# Altium footprint library Antenna.PcbLib: 49 footprints (part 3 of 4)
Each footprint in its own frame and in the unit in brackets; x right, y up, seen from the top. Pads: shape width x height; smd on the part's side, far side on the other; paste and mask are expansions set on the pad; w line width, h text height; cw(c..) or ccw(c..) is an arc to the next point about the centre after c.
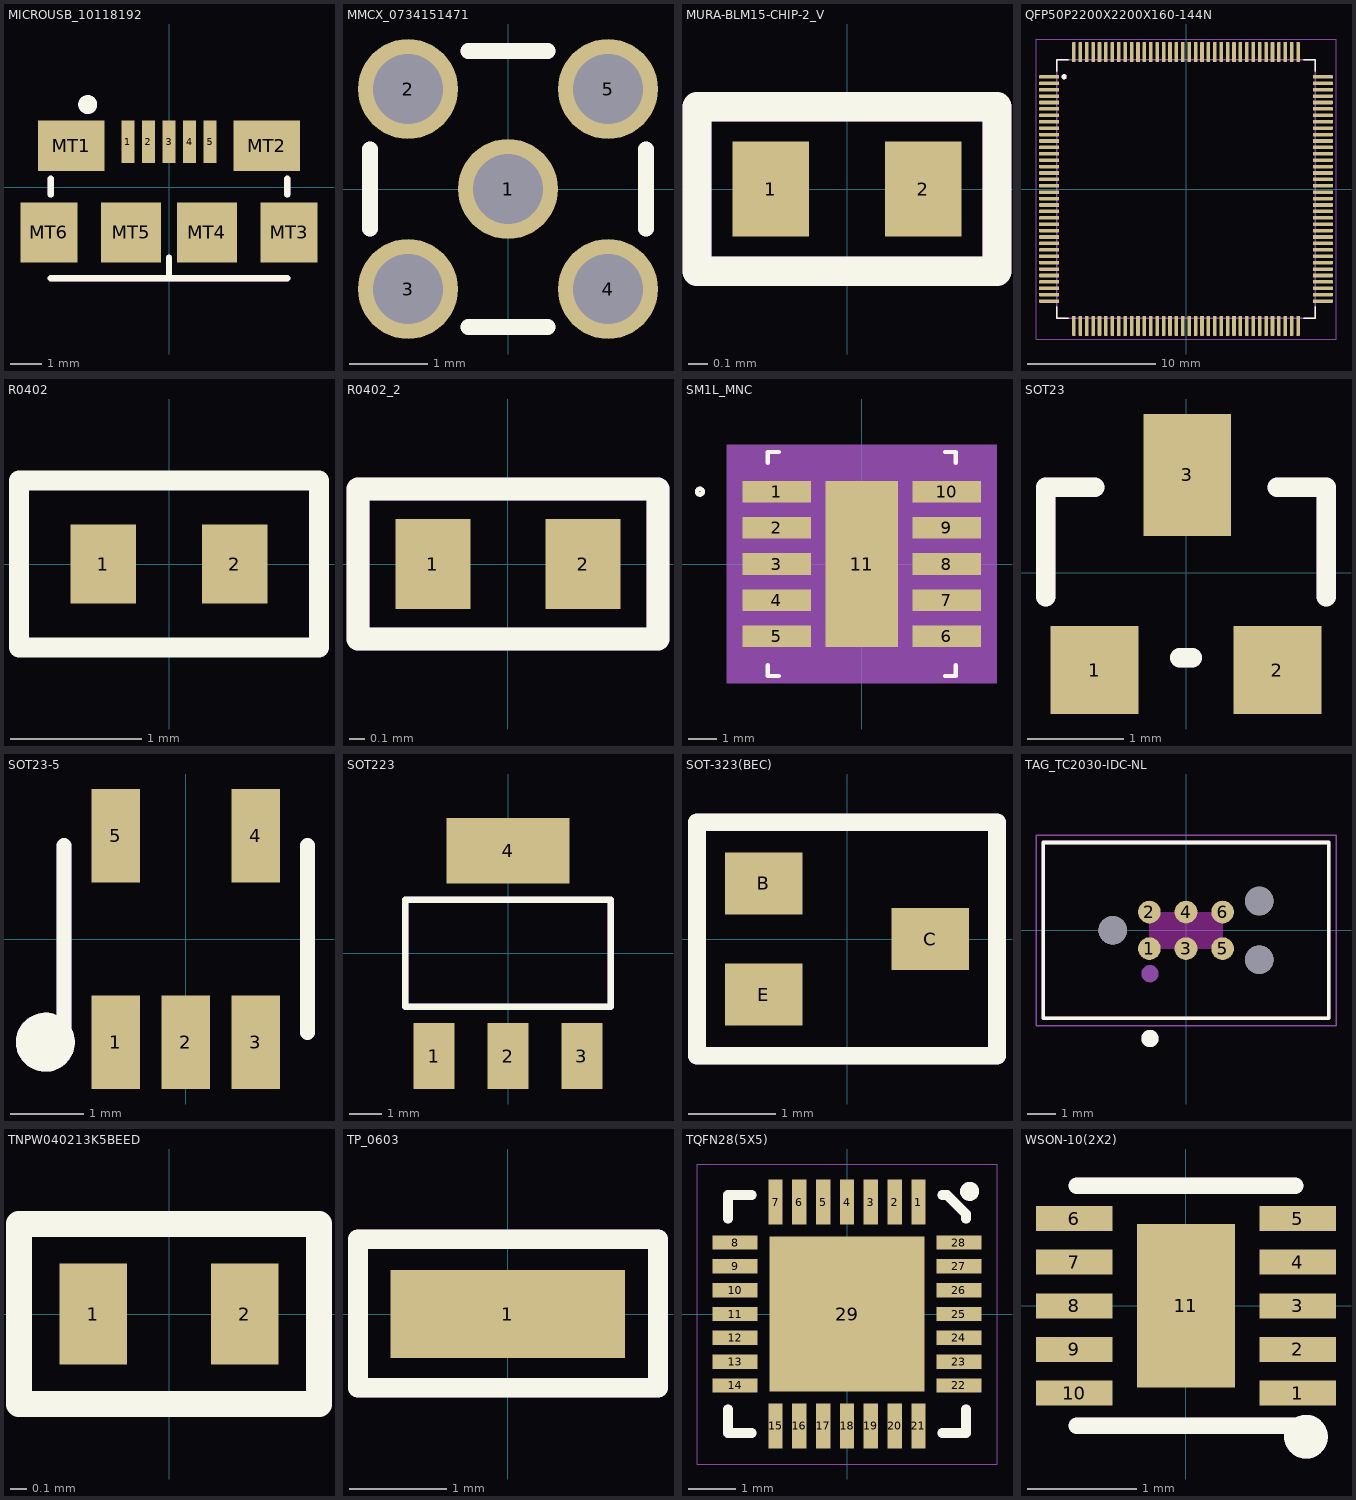
[diagram p2: the footprints below, top view; thin cyan lines are the x and y axes]

## MICROUSB_10118192 [mm]
pads (11):
  rect 0.4x1.35 smd: 1(-1.3,1.438) 2(-0.65,1.438) 3(0,1.438) 4(0.65,1.438) 5(1.3,1.438)
  rect 2.1x1.6 smd: MT1(-3.1,1.313) MT2(3.1,1.313)
  rect 1.8x1.9 smd: MT3(3.8,-1.437) MT6(-3.8,-1.437)
  rect 1.9x1.9 smd: MT4(1.2,-1.437) MT5(-1.2,-1.437)
Top Overlay:
  circle w0.3: c-2.575,2.613 r0.15
  lines w0.203: -3.75,-2.887 0,-2.887 ; -3.75,-0.237 -3.75,0.263 ; 0,-2.237 0,-2.887 ; 3.75,-2.887 0,-2.887 ; 3.75,-0.237 3.75,0.263
Mechanical 3:
  circle w0.3: c-2.575,2.613 r0.15
  lines w0.203: -3.75,-2.887 0,-2.887 ; -3.75,-0.237 -3.75,0.263 ; 0,-2.237 0,-2.887 ; 3.75,-2.887 0,-2.887 ; 3.75,-0.237 3.75,0.263
  text "'.Designator'" at 0.198,-2.773 h0.5
Top Designator:
  text ".Designator" at -7.618,-0.568 h1.52
3D body "609-4613-1-ND.STEP": height 2.68, standoff -0.02, extent -3.95,-3.112 3.95,1.888

## MMCX_0734151471 [mil]
pads (5):
  round 50 hole 35: 1(0,0) 2(-50,50) 3(-50,-50) 4(50,-50) 5(50,50)
Top Overlay:
  lines w8: -68.9,-19.68 -68.9,19.68 ; -19.68,-68.9 19.68,-68.9 ; -19.68,68.9 19.68,68.9 ; 68.9,-19.68 68.9,19.68
Mechanical 3:
  lines w8: -68.9,-19.68 -68.9,19.68 ; -19.68,-68.9 19.68,-68.9 ; -19.68,68.9 19.68,68.9 ; 68.9,-19.68 68.9,19.68
  text "'.Designator'" at -109.51,-6.2 h19.68
Top Designator:
  lines w8: -68.9,-19.68 -68.9,19.68 ; -19.68,-68.9 19.68,-68.9 ; -19.68,68.9 19.68,68.9 ; 68.9,-19.68 68.9,19.68
  text ".Designator" at -214.6,-40.49 h60
3D body "MMCX_0734151471.STEP": height 174.02, standoff -118.9, extent -69.09,-68.9 69.1,69.29

## MURA-BLM15-CHIP-2_V [mm]
pads (2):
  rect 0.4x0.5 smd: 1(-0.4,0) 2(0.4,0)
Top Overlay:
  lines w0.152: -0.787,-0.432 0.787,-0.432 0.787,0.432 -0.787,0.432 -0.787,-0.432
Mechanical 3:
  lines w0.152: -0.787,-0.432 0.787,-0.432 0.787,0.432 -0.787,0.432 -0.787,-0.432
  text "'.Designator'" at -2.782,-0.157 h0.5
Top Designator:
  text ".Designator" at -7.567,-0.499 h1.52
3D body "IND_BLM15_0402_MUR.step": height 0.56, standoff 0, extent -0.496,-0.279 0.546,0.279

## QFP50P2200X2200X160-144N [mm]
pads (144):
  rrect25% 1.56x0.28 smd: 1(-10.68,8.75) 2(-10.68,8.25) 3(-10.68,7.75) 4(-10.68,7.25) 5(-10.68,6.75) 6(-10.68,6.25) 7(-10.68,5.75) 8(-10.68,5.25) 9(-10.68,4.75) 10(-10.68,4.25) 11(-10.68,3.75) 12(-10.68,3.25) 13(-10.68,2.75) 14(-10.68,2.25) 15(-10.68,1.75) 16(-10.68,1.25) 17(-10.68,0.75) 18(-10.68,0.25) 19(-10.68,-0.25) 20(-10.68,-0.75) 21(-10.68,-1.25) 22(-10.68,-1.75) 23(-10.68,-2.25) 24(-10.68,-2.75) 25(-10.68,-3.25) 26(-10.68,-3.75) 27(-10.68,-4.25) 28(-10.68,-4.75) 29(-10.68,-5.25) 30(-10.68,-5.75) 31(-10.68,-6.25) 32(-10.68,-6.75) 33(-10.68,-7.25) 34(-10.68,-7.75) 35(-10.68,-8.25) 36(-10.68,-8.75) 73(10.68,-8.75) 74(10.68,-8.25) 75(10.68,-7.75) 76(10.68,-7.25) 77(10.68,-6.75) 78(10.68,-6.25) 79(10.68,-5.75) 80(10.68,-5.25) 81(10.68,-4.75) 82(10.68,-4.25) 83(10.68,-3.75) 84(10.68,-3.25) 85(10.68,-2.75) 86(10.68,-2.25) 87(10.68,-1.75) 88(10.68,-1.25) 89(10.68,-0.75) 90(10.68,-0.25) 91(10.68,0.25) 92(10.68,0.75) 93(10.68,1.25) 94(10.68,1.75) 95(10.68,2.25) 96(10.68,2.75) 97(10.68,3.25) 98(10.68,3.75) 99(10.68,4.25) 100(10.68,4.75) 101(10.68,5.25) 102(10.68,5.75) 103(10.68,6.25) 104(10.68,6.75) 105(10.68,7.25) 106(10.68,7.75) 107(10.68,8.25) 108(10.68,8.75)
  rrect25% 0.28x1.56 smd: 37(-8.75,-10.68) 38(-8.25,-10.68) 39(-7.75,-10.68) 40(-7.25,-10.68) 41(-6.75,-10.68) 42(-6.25,-10.68) 43(-5.75,-10.68) 44(-5.25,-10.68) 45(-4.75,-10.68) 46(-4.25,-10.68) 47(-3.75,-10.68) 48(-3.25,-10.68) 49(-2.75,-10.68) 50(-2.25,-10.68) 51(-1.75,-10.68) 52(-1.25,-10.68) 53(-0.75,-10.68) 54(-0.25,-10.68) 55(0.25,-10.68) 56(0.75,-10.68) 57(1.25,-10.68) 58(1.75,-10.68) 59(2.25,-10.68) 60(2.75,-10.68) 61(3.25,-10.68) 62(3.75,-10.68) 63(4.25,-10.68) 64(4.75,-10.68) 65(5.25,-10.68) 66(5.75,-10.68) 67(6.25,-10.68) 68(6.75,-10.68) 69(7.25,-10.68) 70(7.75,-10.68) 71(8.25,-10.68) 72(8.75,-10.68) 109(8.75,10.68) 110(8.25,10.68) 111(7.75,10.68) 112(7.25,10.68) 113(6.75,10.68) 114(6.25,10.68) 115(5.75,10.68) 116(5.25,10.68) 117(4.75,10.68) 118(4.25,10.68) 119(3.75,10.68) 120(3.25,10.68) 121(2.75,10.68) 122(2.25,10.68) 123(1.75,10.68) 124(1.25,10.68) 125(0.75,10.68) 126(0.25,10.68) 127(-0.25,10.68) 128(-0.75,10.68) 129(-1.25,10.68) 130(-1.75,10.68) 131(-2.25,10.68) 132(-2.75,10.68) 133(-3.25,10.68) 134(-3.75,10.68) 135(-4.25,10.68) 136(-4.75,10.68) 137(-5.25,10.68) 138(-5.75,10.68) 139(-6.25,10.68) 140(-6.75,10.68) 141(-7.25,10.68) 142(-7.75,10.68) 143(-8.25,10.68) 144(-8.75,10.68)
Top Overlay:
  circle w0.2: c-9.525,8.763 r0.1
  lines w0.127: -10.1,-9.21 -10.1,-10.1 -9.21,-10.1 ; -10.1,9.21 -10.1,10.1 -9.21,10.1 ; 9.21,-10.1 10.1,-10.1 10.1,-9.21 ; 9.21,10.1 10.1,10.1 10.1,9.21
Mechanical 3:
  circle w0.2: c-9.525,8.763 r0.1
  lines w0.127: -10.1,-9.21 -10.1,-10.1 -9.21,-10.1 ; -10.1,9.21 -10.1,10.1 -9.21,10.1 ; 9.21,-10.1 10.1,-10.1 10.1,-9.21 ; 9.21,10.1 10.1,10.1 10.1,9.21
  text "'.Designator'" at -2.832,-0.208 h0.5
Top Designator:
  text ".Designator" at -7.618,-0.508 h1.52
Mechanical 13:
  circle w0.2: c-9.525,8.763 r0.1
  lines w0.127: -10.1,-10.1 -10.1,10.1 10.1,10.1 10.1,-10.1 -10.1,-10.1
Mechanical 15:
  lines w0.05: -11.71,-11.71 -11.71,11.71 11.71,11.71 11.71,-11.71 -11.71,-11.71

## R0402 [mm]
height 8.54
pads (2):
  rect 0.5x0.6 smd: 1(-0.5,0) 2(0.5,0)
Top Overlay:
  lines w0.152: -1.143,-0.635 -1.143,0.635 ; -1.143,-0.635 1.143,-0.635 ; -1.143,-0.635 -1.143,0.635 ; -1.143,-0.635 1.143,-0.635 ; -1.143,0.635 1.143,0.635 ; -1.143,0.635 1.143,0.635 ; 1.143,-0.635 1.143,0.635 ; 1.143,-0.635 1.143,0.635
Top Designator:
  text ".Designator" at -1.27,-0.085 h0.25
3D body "User Library-SMD RESISTOR-1.step": height 0.34, standoff -0.02, extent -0.5,-0.25 0.5,0.25

## R0402_2 [mm]
pads (2):
  rect 0.5x0.6 smd: 1(-0.5,0) 2(0.5,0)
Top Overlay:
  lines w0.152: -1,-0.5 -1,0.5 1,0.5 1,-0.5 -1,-0.5
Mechanical 3:
  lines w0.152: -1,-0.5 -1,0.5 1,0.5 1,-0.5 -1,-0.5
  text "'.Designator'" at 2.832,0.135 h0.5
Top Designator:
  text ".Designator" at -7.618,-0.508 h1.52
3D body "User Library-SMD RESISTOR-1.step": height 0.34, standoff -0.02, extent -0.5,-0.25 0.5,0.25

## SM1L_MNC [mil]
pads (11):
  rect 95x30 smd paste+0 mask+0: 1(-117.5,100) 2(-117.5,50) 3(-117.5,0) 4(-117.5,-50) 5(-117.5,-100) 6(117.5,-100) 7(117.5,-50) 8(117.5,0) 9(117.5,50) 10(117.5,100)
  rect 100x230 smd paste+0 mask+0: 11(0,0)
Top Overlay:
  circle w6: c-224,100 r4
  lines w6: -130,-140 -130,-155 -115,-155 ; -130,140 -130,155 -115,155 ; 115,-155 130,-155 130,-140 ; 115,155 130,155 130,140
Top Paste:
  region: -3.94,111.06 -46.06,111.06 -46.06,61.44 -3.94,61.44
  region: -3.94,53.56 -46.06,53.56 -46.06,3.94 -3.94,3.94
  region: -3.94,-3.94 -46.06,-3.94 -46.06,-53.56 -3.94,-53.56
  region: -3.94,-61.44 -46.06,-61.44 -46.06,-111.06 -3.94,-111.06
  region: 46.06,111.06 3.94,111.06 3.94,61.44 46.06,61.44
  region: 46.06,53.56 3.94,53.56 3.94,3.94 46.06,3.94
  region: 46.06,-3.94 3.94,-3.94 3.94,-53.56 46.06,-53.56
  region: 46.06,-61.44 3.94,-61.44 3.94,-111.06 46.06,-111.06
Mechanical 5:
  region: 187,-165 -187,-165 -187,165 187,165
Top Designator:
  circle w6: c-224,100 r4
  lines w6: -130,-140 -130,-155 -115,-155 ; -130,140 -130,155 -115,155 ; 115,-155 130,-155 130,-140 ; 115,155 130,155 130,140
  text ".Designator" at -271.92,-16.66 h50
Mechanical 13:
  circle w0: c-85,100 r3
  lines w0: -12,150 ccw(c0,150) 12,150
  lines w1: -125,-150 125,-150 125,150 -125,150 -125,-150
Mechanical 15:
  region: -135,-116.5 -182,-116.5 -182,116.5 -135,116.5 -135,160 135,160 135,116.5 182,116.5 182,-116.5 135,-116.5 135,-160 -135,-160
  lines w6: -182,-116.5 -182,116.5 -135,116.5 -135,160 135,160 135,116.5 182,116.5 182,-116.5 135,-116.5 135,-160 -135,-160 -135,-116.5 -182,-116.5
3D body "SM1L_MNC.step": height 70.12, standoff 0, extent -160,-150 160,150

## SOT23 [mil]
pads (3):
  rect 36x36 smd: 1(-37.5,-40) 2(37.5,-40)
  rect 36x50 smd: 3(0.5,40)
Top Overlay:
  lines w8: -57.5,-10 -57.5,35 -37.5,35 ; -2.5,-35 2.5,-35 ; 37.5,35 57.5,35 57.5,-10
Mechanical 3:
  lines w8: -57.5,-10 -57.5,35 -37.5,35 ; -2.5,-35 2.5,-35 ; 37.5,35 57.5,35 57.5,-10
  text "'.Designator'" at 7.29,-112.46 h19.68
Top Designator:
  text ".Designator" at -299.9,-20.95 h60
3D body "SW3DPS-SOT-23-DEFAULT.step": height 42.52, standoff -0.79, extent -58.06,-46.43 60.06,52

## SOT23-5 [mm]
pads (5):
  rect 0.66x1.27 smd: 1(-0.95,-1.4) 2(0,-1.4) 3(0.95,-1.4) 4(0.95,1.4) 5(-0.95,1.4)
Top Overlay:
  circle w0.4: c-1.902,-1.4 r0.2
  lines w0.203: -1.651,-1.27 -1.651,1.27 ; 1.651,-1.27 1.651,1.27
Mechanical 3:
  circle w0.4: c-1.902,-1.4 r0.2
  lines w0.203: -1.651,-1.27 -1.651,1.27 ; 1.651,-1.27 1.651,1.27
  text "'.Designator'" at -0.152,2.706 h0.5
Top Designator:
  text ".Designator" at -7.892,-0.635 h1.52
3D body "SOT23-5.STEP": height 1.08, standoff -0.02, extent -1.461,-1.4 1.439,1.4

## SOT223 [mil]
pads (4):
  rect 50x80 smd: 1(-90,-125) 2(0,-125) 3(90,-125)
  rect 150x80 smd: 4(0,125)
Top Overlay:
  lines w8: -125,-65 125,-65 125,65 -125,65 -125,-65
Mechanical 3:
  lines w8: -125,-65 125,-65 125,65 -125,65 -125,-65
  text "'.Designator'" at 112.44,7.37 h19.68
Top Designator:
  text ".Designator" at -299.9,-19.99 h60
3D body "SOT-223-1.STEP": height 65.04, standoff 0.08, extent -127.95,-137.8 127.96,137.79

## SOT-323(BEC) [mil]
pads (3):
  rect 35x28 smd: B(-37.5,25) C(37.5,0) E(-37.5,-25)
Top Overlay:
  lines w8: -67.5,-52.5 67.5,-52.5 67.5,52.5 -67.5,52.5 -67.5,-52.5
Mechanical 3:
  lines w8: -67.5,-52.5 67.5,-52.5 67.5,52.5 -67.5,52.5 -67.5,-52.5
  text "'.Designator'" at -108.49,-6.27 h19.68
Top Designator:
  text ".Designator" at -296.88,-19.99 h60
3D body "SOT323 (SC70-3)-1.STEP": height 43.31, standoff 0, extent -44.09,-43.31 44.3,43.3

## TAG_TC2030-IDC-NL [mil]
pads (9):
  round 30.98 smd paste-39.37: 1(-50,-25) 2(-50,25) 3(0,-25) 4(0,25) 5(50,-25) 6(50,25)
  round 39.02 hole 39.02 unplated: ""(-100,0) ""(100,-40) ""(100,40)
Top Overlay:
  circle w11.81: c-49.21,-147.64 r5.91
  lines w5: -195,-120 195,-120 195,120 -195,120 -195,-120
Keep-Out Layer:
  region: 50,-25.03 -50.06,-25.03 -50.06,25 50,25
Mechanical 3:
  circle w11.81: c-49.21,-147.64 r5.91
  lines w5: -195,-120 195,-120 195,120 -195,120 -195,-120
  text ".Designator" at -299.9,-34.27 h60
Top Designator:
  text ".Designator" at -299.9,-34.27 h60
Mechanical 13:
  circle w11.81: c-49.21,-59.06 r5.91
  lines w5: -195,-120 -195,120 195,120 195,-120 -195,-120
Mechanical 15:
  lines w1.97: -204.72,-129.92 -204.72,129.92 204.72,129.92 204.72,-129.92 -204.72,-129.92

## TNPW040213K5BEED [mm]
pads (2):
  rect 0.4x0.6 smd: 1(-0.45,0) 2(0.45,0)
Top Overlay:
  lines w0.152: -0.889,-0.533 0.889,-0.533 0.889,0.533 -0.889,0.533 -0.889,-0.533
Mechanical 3:
  lines w0.152: -0.889,-0.533 0.889,-0.533 0.889,0.533 -0.889,0.533 -0.889,-0.533
  text "'.Designator'" at -2.756,-0.157 h0.5
Top Designator:
  text ".Designator" at -7.541,-0.508 h1.52
3D body "RC0402N.step": height 0.71, standoff 0, extent -0.525,-0.229 0.525,0.271

## TP_0603 [mm]
height 8.54
pads (1):
  rect 2.4x0.9 smd mask+0.05: 1(0,0)
Top Overlay:
  lines w0.2: -1.533,-0.757 1.54,-0.757 1.54,0.767 -1.533,0.767 -1.533,-0.757
Mechanical 3:
  lines w0.2: -1.533,-0.757 -1.533,0.767 1.54,0.767 1.54,-0.757 -1.533,-0.757
  text "'.Designator'" at -2.832,-0.208 h0.5
Top Designator:
  text ".Designator" at -7.618,-0.503 h1.52

## TQFN28(5X5) [mm]
pads (29):
  rect 0.3x0.95 smd mask+0.05: 1(1.5,2.35) 2(1,2.35) 3(0.5,2.35) 4(0,2.35) 5(-0.5,2.35) 6(-1,2.35) 7(-1.5,2.35) 15(-1.5,-2.35) 16(-1,-2.35) 17(-0.5,-2.35) 18(0,-2.35) 19(0.5,-2.35) 20(1,-2.35) 21(1.5,-2.35)
  rect 0.95x0.3 smd mask+0.05: 8(-2.35,1.5) 9(-2.35,1) 10(-2.35,0.5) 11(-2.35,0) 12(-2.35,-0.5) 13(-2.35,-1) 14(-2.35,-1.5) 22(2.35,-1.5) 23(2.35,-1) 24(2.35,-0.5) 25(2.35,0) 26(2.35,0.5) 27(2.35,1) 28(2.35,1.5)
  rect 3.25x3.25 smd paste-1.664 mask+0.05: 29(0,0)
Top Overlay:
  circle w0.2: c2.575,2.575 r0.1
  lines w0.203: -2.5,-2 -2.5,-2.5 -2,-2.5 ; -2.5,2 -2.5,2.5 -2,2.5 ; 2,-2.5 2.5,-2.5 2.5,-2 ; 2,2.5 2.1,2.5 2.5,2.1 2.5,2
Top Paste:
  region: -0.1,-1.576 -0.1,-0.1 -1.576,-0.1 -1.576,-1.576
  region: 1.576,-1.576 1.576,-0.1 0.1,-0.1 0.1,-1.576
  region: -0.1,0.1 -0.1,1.576 -1.576,1.576 -1.576,0.1
  region: 1.576,0.1 1.576,1.576 0.1,1.576 0.1,0.1
Mechanical 3:
  circle w0.2: c2.575,2.575 r0.1
  lines w0.203: -2.5,-2 -2.5,-2.5 -2,-2.5 ; -2.5,2 -2.5,2.5 -2,2.5 ; 2,-2.5 2.5,-2.5 2.5,-2 ; 2,2.5 2.1,2.5 2.5,2.1 2.5,2
  text "'.Designator'" at -2.832,-0.208 h0.5
Top Designator:
  text ".Designator" at -7.618,-0.508 h1.52
Mechanical 13:
  circle w0.025: c0,0 r0.35
  lines w0.025: -0.5,0 0.5,0 ; 0,-0.5 0,0.5 ; -3.15,-3.15 -3.15,3.15 3.15,3.15 3.15,-3.15 -3.15,-3.15
3D body "TQFN28(5X5).stp": height 0.81, standoff 0, extent -2.603,-2.604 2.604,2.603

## WSON-10(2X2) [mm]
pads (11):
  rect 0.7x0.23 smd mask+0.05: 1(1.025,-0.8) 2(1.025,-0.4) 3(1.025,0) 4(1.025,0.4) 5(1.025,0.8) 6(-1.025,0.8) 7(-1.025,0.4) 8(-1.025,0) 9(-1.025,-0.4) 10(-1.025,-0.8)
  rect 0.9x1.5 smd mask+0.05: 11(0,0)
Top Overlay:
  circle w0.2: c1.1,-1.2 r0.1
  lines w0.15: -1,-1.1 1,-1.1 ; -1,1.1 1,1.1
Mechanical 3:
  circle w0.2: c1.1,-1.2 r0.1
  lines w0.15: -1,-1.1 1,-1.1 ; -1,1.1 1,1.1
  text "'.Designator'" at -2.832,-0.208 h0.5
Top Designator:
  text ".Designator" at -7.618,-0.62 h1.52
3D body "DSQ0010A.stp": height 0.8, standoff 0, extent -1,-1 1,1